# Altium integrated library FSBB20CH60F.IntLib: 1 symbol
Pins are listed as number, name and electrical type; pins without a type are passive.

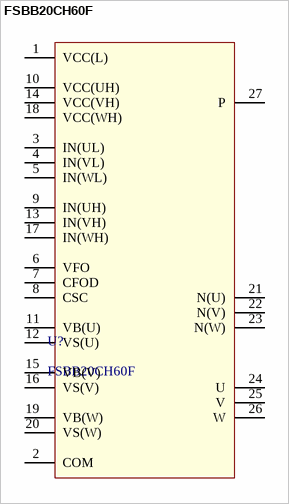
[diagram p0: symbol FSBB20CH60F]

## FSBB20CH60F
designator U?
footprint FSBB20CH60F
pins: 1 VCC(L), 2 COM, 3 IN(UL), 4 IN(VL), 5 IN(WL), 6 VFO, 7 CFOD, 8 CSC, 9 IN(UH), 10 VCC(UH), 11 VB(U), 12 VS(U), 13 IN(VH), 14 VCC(VH), 15 VB(V), 16 VS(V), 17 IN(WH), 18 VCC(WH), 19 VB(W), 20 VS(W), 21 N(U), 22 N(V), 23 N(W), 24 U, 25 V, 26 W, 27 P